# Altium footprint library SnapEDApcb.PcbLib: 1 footprints
Each footprint in its own frame and in the unit in brackets; x right, y up, seen from the top. Pads: shape width x height; smd on the part's side, far side on the other; paste and mask are expansions set on the pad; w line width, h text height; cw(c..) or ccw(c..) is an arc to the next point about the centre after c.
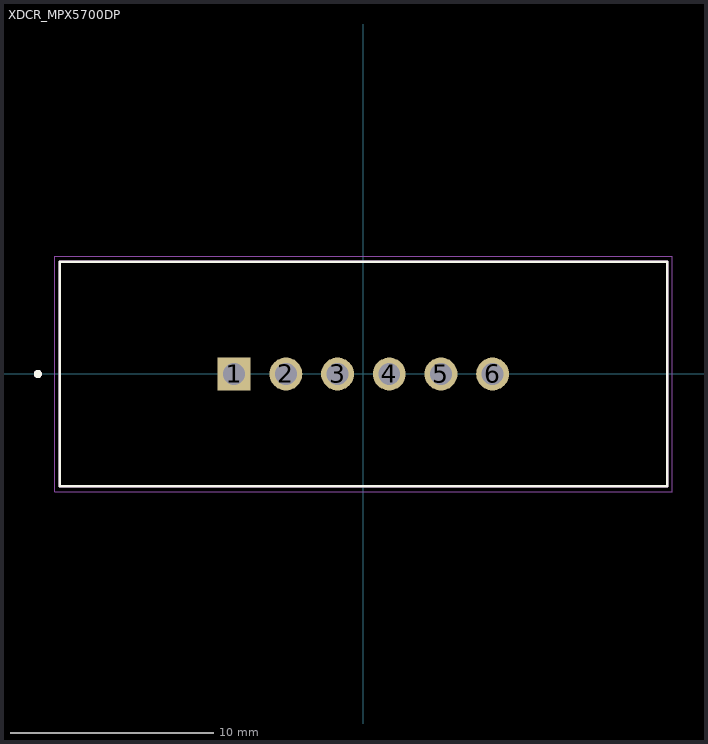
[diagram p0: the footprint, top view; thin cyan lines are the x and y axes]

## XDCR_MPX5700DP [mm]
pads (6):
  rect 1.62x1.62 hole 1.08: 1(-6.35,0)
  round 1.62 hole 1.08: 2(-3.81,0) 3(-1.27,0) 4(1.27,0) 5(3.81,0) 6(6.35,0)
Top Overlay:
  circle w0.2: c-16,0 r0.1
  lines w0.127: -14.925,-5.525 -14.925,5.525 14.925,5.525 14.925,-5.525 -14.925,-5.525
Mechanical 13:
  circle w0.2: c-16,0 r0.1
  lines w0.127: -14.925,-5.525 -14.925,5.525 14.925,5.525 14.925,-5.525 -14.925,-5.525
Mechanical 15:
  lines w0.05: -15.175,-5.775 -15.175,5.775 15.175,5.775 15.175,-5.775 -15.175,-5.775